# Altium schematic symbol library SamacSys.SchLib: 6 symbols
Pins are listed as number, name and electrical type; pins without a type are passive.

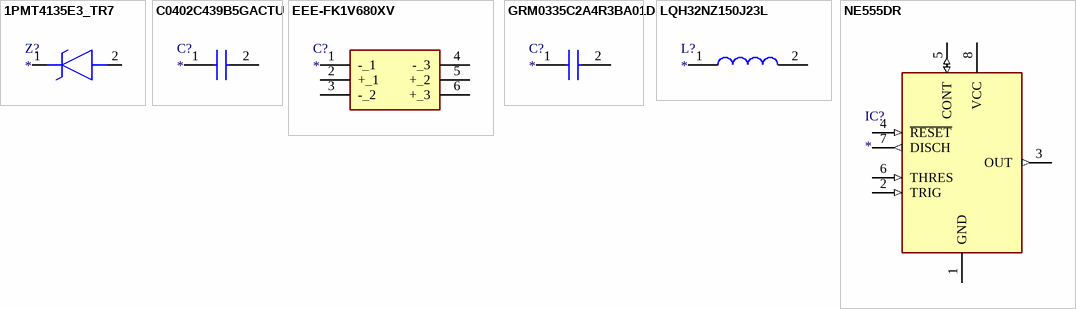
[diagram p0: symbols 1PMT4135E3_TR7 to NE555DR]

## 1PMT4135E3_TR7
designator Z?
Zener Diode; Manufacturer_Name: Microsemi Corporation; Manufacturer_Part_Number: 1PMT4135E3/TR7; Datasheet Link: https://componentsearchengine.com/Datasheets/1/1PMT4135E3_TR7.pdf; Height: 1.14mm; Mouser Part Number: 494-1PMT4135E3/TR7; Mouser Price/Stock: https://www.mouser.com/Search/Refine.aspx?Keyword=494-1PMT4135E3%2FTR7
footprint 1PMT4135E3TR7
pins: 1 K, 2 A

## C0402C439B5GACTU
designator C?
Capacitor; Manufacturer_Name: Kemet; Manufacturer_Part_Number: C0402C439B5GACTU; Datasheet Link: https://content.kemet.com/datasheets/KEM_C1002_X7R_SMD.pdf; Height: 0.55mm; Mouser Part Number: 80-C0402C439B5GACTU; Mouser Price/Stock: https://www.mouser.com/Search/Refine.aspx?Keyword=80-C0402C439B5GACTU
footprint CAPC1005X55N
pins: 1, 2

## EEE-FK1V680XV
designator C?
Capacitor Polarised; Manufacturer_Name: Panasonic; Manufacturer_Part_Number: EEE-FK1V680XV; Datasheet Link: https://componentsearchengine.com/Datasheets/1/EEE-FK1V680XV.pdf; Height: 8.3mm; Mouser Part Number: 667-EEE-FK1V680XV; Mouser Price/Stock: https://www.mouser.co.uk/ProductDetail/Panasonic/EEE-FK1V680XV?qs=PzGy0jfpSMui71B06pg1IA%3D%3D
footprint EEEFK1V680XV
pins: 1 -_1, 2 +_1, 3 -_2, 4 -_3, 5 +_2, 6 +_3

## GRM0335C2A4R3BA01D
designator C?
Capacitor; Manufacturer_Name: Murata Electronics; Manufacturer_Part_Number: GRM0335C2A4R3BA01D; Datasheet Link: http://www.murata.com/~/media/webrenewal/support/library/catalog/products/capacitor/mlcc/c02e.pdf; Height: 0.33mm; Mouser Part Number: 81-GRM0335C2A4R3BA1D; Mouser Price/Stock: https://www.mouser.com/Search/Refine.aspx?Keyword=81-GRM0335C2A4R3BA1D
footprint CAPC0603X33N
pins: 1, 2

## LQH32NZ150J23L
designator L?
Inductor; Manufacturer_Name: Murata Electronics; Manufacturer_Part_Number: LQH32NZ150J23L; Description: LQH32NZ_23 Series Inductor 15uH +/-5% 1210 (3225); Datasheet Link: https://psearch.en.murata.com/inductor/product/LQH32NZ150J23%23.html; Height: 2.2mm; Mouser Part Number: 81-LQH32NZ150J23L; Mouser Price/Stock: https://www.mouser.co.uk/ProductDetail/Murata-Electronics/LQH32NZ150J23L?qs=rkhjVJ6%2F3EJV4c6PqkS1iA%3D%3D
footprint LQH32DN100K23L
pins: 1, 2

## NE555DR
designator IC?
Integrated Circuit; Manufacturer_Name: Texas Instruments; Manufacturer_Part_Number: NE555DR; Datasheet Link: http://www.ti.com/lit/ds/symlink/ne555.pdf; Height: 1.75mm; Mouser Part Number: 595-NE555DR; Mouser Price/Stock: https://www.mouser.com/Search/Refine.aspx?Keyword=595-NE555DR; RS Part Number: 1218414; RS Price/Stock: http://uk.rs-online.com/web/p/products/1218414
footprint SOIC127P600X175-8N
pins: 1 GND (power), 2 TRIG (in), 3 OUT (out), 4 ~{RESET} (in), 5 CONT (io), 6 THRES (in), 7 DISCH (out), 8 VCC (power)